# Altium footprint library Connector_Samtec_HPM_THT.PcbLib: 38 footprints (part 2 of 3)
Each footprint in its own frame and in the unit in brackets; x right, y up, seen from the top. Pads: shape width x height; smd on the part's side, far side on the other; paste and mask are expansions set on the pad; w line width, h text height; cw(c..) or ccw(c..) is an arc to the next point about the centre after c.
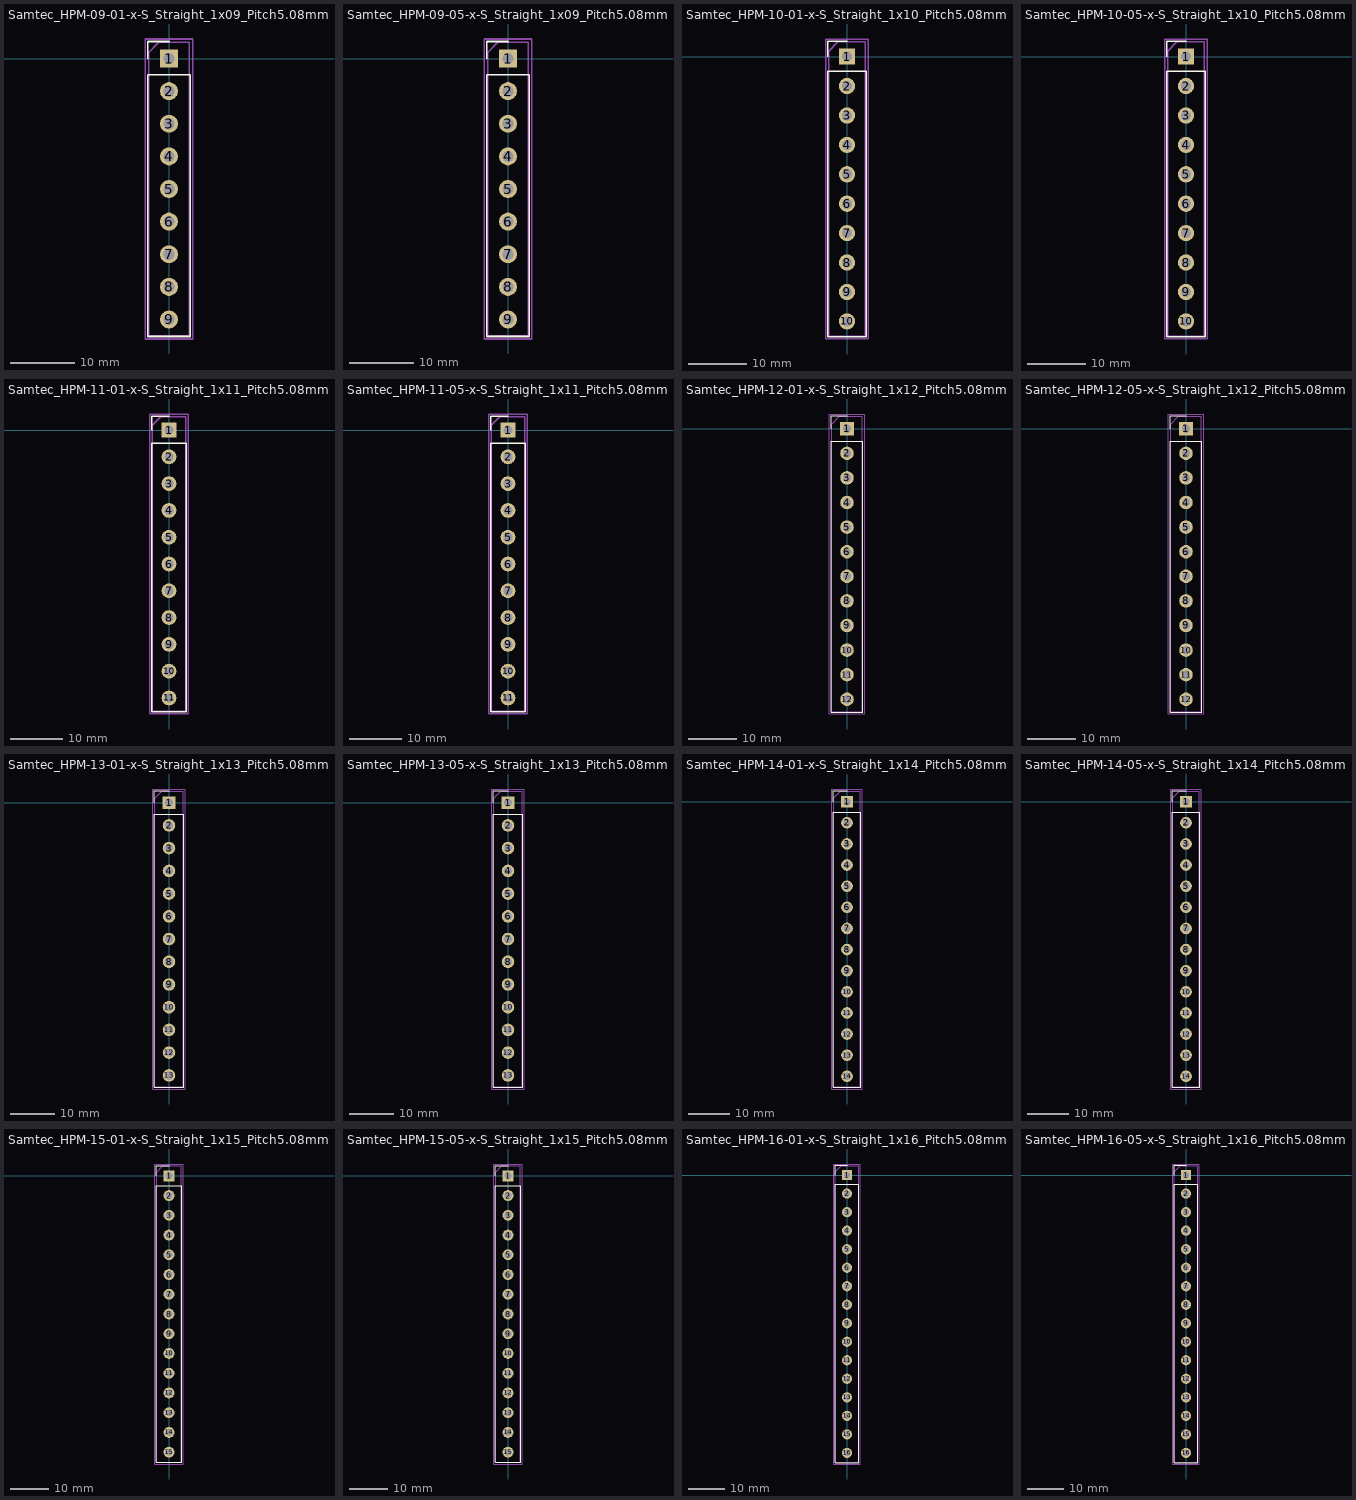
[diagram p1: the footprints below, top view; thin cyan lines are the x and y axes]

## Samtec_HPM-09-01-x-S_Straight_1x09_Pitch5.08mm [mm]
pads (9):
  rect 2.8x2.8 hole 1.75: 1(0,0)
  round 2.8 hole 1.75: 2(0,-5.08) 3(0,-10.16) 4(0,-15.24) 5(0,-20.32) 6(0,-25.4) 7(0,-30.48) 8(0,-35.56) 9(0,-40.64)
F.SilkS:
  lines w0.254: -3.285,0 -3.285,2.65 0,2.65 ; -3.285,-43.29 3.285,-43.29 3.285,-2.54 -3.285,-2.54 -3.285,-43.29
Top Assembly:
  lines w0.254: -3.175,-43.18 3.175,-43.18 3.175,2.54 -1.587,2.54 -3.175,0.953 -3.175,-43.18
  text "'.Designator'" at 0.84,-24.367 h1
Top Courtyard:
  lines w0.254: -3.68,-43.68 3.68,-43.68 3.68,3.04 -3.68,3.04 -3.68,-43.68
Top Designator:
  text ".Designator" at -7.618,-20.828 h1.52

## Samtec_HPM-09-05-x-S_Straight_1x09_Pitch5.08mm [mm]
pads (9):
  rect 2.8x2.8 hole 1.75: 1(0,0)
  round 2.8 hole 1.75: 2(0,-5.08) 3(0,-10.16) 4(0,-15.24) 5(0,-20.32) 6(0,-25.4) 7(0,-30.48) 8(0,-35.56) 9(0,-40.64)
F.SilkS:
  lines w0.254: -3.285,0 -3.285,2.65 0,2.65 ; -3.285,-43.29 3.285,-43.29 3.285,-2.54 -3.285,-2.54 -3.285,-43.29
Top Assembly:
  lines w0.254: -3.175,-43.18 3.175,-43.18 3.175,2.54 -1.587,2.54 -3.175,0.953 -3.175,-43.18
  text "'.Designator'" at 0.84,-24.367 h1
Top Courtyard:
  lines w0.254: -3.68,-43.68 3.68,-43.68 3.68,3.04 -3.68,3.04 -3.68,-43.68
Top Designator:
  text ".Designator" at -7.618,-20.828 h1.52

## Samtec_HPM-10-01-x-S_Straight_1x10_Pitch5.08mm [mm]
pads (10):
  rect 2.8x2.8 hole 1.75: 1(0,0)
  round 2.8 hole 1.75: 2(0,-5.08) 3(0,-10.16) 4(0,-15.24) 5(0,-20.32) 6(0,-25.4) 7(0,-30.48) 8(0,-35.56) 9(0,-40.64) 10(0,-45.72)
F.SilkS:
  lines w0.254: -3.285,0 -3.285,2.65 0,2.65 ; -3.285,-48.37 3.285,-48.37 3.285,-2.54 -3.285,-2.54 -3.285,-48.37
Top Assembly:
  lines w0.254: -3.175,-48.26 3.175,-48.26 3.175,2.54 -1.587,2.54 -3.175,0.953 -3.175,-48.26
  text "'.Designator'" at 0.84,-26.907 h1
Top Courtyard:
  lines w0.254: -3.68,-48.76 3.68,-48.76 3.68,3.04 -3.68,3.04 -3.68,-48.76
Top Designator:
  text ".Designator" at -7.618,-23.368 h1.52

## Samtec_HPM-10-05-x-S_Straight_1x10_Pitch5.08mm [mm]
pads (10):
  rect 2.8x2.8 hole 1.75: 1(0,0)
  round 2.8 hole 1.75: 2(0,-5.08) 3(0,-10.16) 4(0,-15.24) 5(0,-20.32) 6(0,-25.4) 7(0,-30.48) 8(0,-35.56) 9(0,-40.64) 10(0,-45.72)
F.SilkS:
  lines w0.254: -3.285,0 -3.285,2.65 0,2.65 ; -3.285,-48.37 3.285,-48.37 3.285,-2.54 -3.285,-2.54 -3.285,-48.37
Top Assembly:
  lines w0.254: -3.175,-48.26 3.175,-48.26 3.175,2.54 -1.587,2.54 -3.175,0.953 -3.175,-48.26
  text "'.Designator'" at 0.84,-26.907 h1
Top Courtyard:
  lines w0.254: -3.68,-48.76 3.68,-48.76 3.68,3.04 -3.68,3.04 -3.68,-48.76
Top Designator:
  text ".Designator" at -7.618,-23.368 h1.52

## Samtec_HPM-11-01-x-S_Straight_1x11_Pitch5.08mm [mm]
pads (11):
  rect 2.8x2.8 hole 1.75: 1(0,0)
  round 2.8 hole 1.75: 2(0,-5.08) 3(0,-10.16) 4(0,-15.24) 5(0,-20.32) 6(0,-25.4) 7(0,-30.48) 8(0,-35.56) 9(0,-40.64) 10(0,-45.72) 11(0,-50.8)
F.SilkS:
  lines w0.254: -3.285,0 -3.285,2.65 0,2.65 ; -3.285,-53.45 3.285,-53.45 3.285,-2.54 -3.285,-2.54 -3.285,-53.45
Top Assembly:
  lines w0.254: -3.175,-53.34 3.175,-53.34 3.175,2.54 -1.587,2.54 -3.175,0.953 -3.175,-53.34
  text "'.Designator'" at 0.84,-29.447 h1
Top Courtyard:
  lines w0.254: -3.68,-53.84 3.68,-53.84 3.68,3.04 -3.68,3.04 -3.68,-53.84
Top Designator:
  text ".Designator" at -7.618,-25.908 h1.52

## Samtec_HPM-11-05-x-S_Straight_1x11_Pitch5.08mm [mm]
pads (11):
  rect 2.8x2.8 hole 1.75: 1(0,0)
  round 2.8 hole 1.75: 2(0,-5.08) 3(0,-10.16) 4(0,-15.24) 5(0,-20.32) 6(0,-25.4) 7(0,-30.48) 8(0,-35.56) 9(0,-40.64) 10(0,-45.72) 11(0,-50.8)
F.SilkS:
  lines w0.254: -3.285,0 -3.285,2.65 0,2.65 ; -3.285,-53.45 3.285,-53.45 3.285,-2.54 -3.285,-2.54 -3.285,-53.45
Top Assembly:
  lines w0.254: -3.175,-53.34 3.175,-53.34 3.175,2.54 -1.587,2.54 -3.175,0.953 -3.175,-53.34
  text "'.Designator'" at 0.84,-29.447 h1
Top Courtyard:
  lines w0.254: -3.68,-53.84 3.68,-53.84 3.68,3.04 -3.68,3.04 -3.68,-53.84
Top Designator:
  text ".Designator" at -7.618,-25.908 h1.52

## Samtec_HPM-12-01-x-S_Straight_1x12_Pitch5.08mm [mm]
pads (12):
  rect 2.8x2.8 hole 1.75: 1(0,0)
  round 2.8 hole 1.75: 2(0,-5.08) 3(0,-10.16) 4(0,-15.24) 5(0,-20.32) 6(0,-25.4) 7(0,-30.48) 8(0,-35.56) 9(0,-40.64) 10(0,-45.72) 11(0,-50.8) 12(0,-55.88)
F.SilkS:
  lines w0.254: -3.285,0 -3.285,2.65 0,2.65 ; -3.285,-58.53 3.285,-58.53 3.285,-2.54 -3.285,-2.54 -3.285,-58.53
Top Assembly:
  lines w0.254: -3.175,-58.42 3.175,-58.42 3.175,2.54 -1.587,2.54 -3.175,0.953 -3.175,-58.42
  text "'.Designator'" at 0.84,-31.987 h1
Top Courtyard:
  lines w0.254: -3.68,-58.92 3.68,-58.92 3.68,3.04 -3.68,3.04 -3.68,-58.92
Top Designator:
  text ".Designator" at -7.618,-28.448 h1.52

## Samtec_HPM-12-05-x-S_Straight_1x12_Pitch5.08mm [mm]
pads (12):
  rect 2.8x2.8 hole 1.75: 1(0,0)
  round 2.8 hole 1.75: 2(0,-5.08) 3(0,-10.16) 4(0,-15.24) 5(0,-20.32) 6(0,-25.4) 7(0,-30.48) 8(0,-35.56) 9(0,-40.64) 10(0,-45.72) 11(0,-50.8) 12(0,-55.88)
F.SilkS:
  lines w0.254: -3.285,0 -3.285,2.65 0,2.65 ; -3.285,-58.53 3.285,-58.53 3.285,-2.54 -3.285,-2.54 -3.285,-58.53
Top Assembly:
  lines w0.254: -3.175,-58.42 3.175,-58.42 3.175,2.54 -1.587,2.54 -3.175,0.953 -3.175,-58.42
  text "'.Designator'" at 0.84,-31.987 h1
Top Courtyard:
  lines w0.254: -3.68,-58.92 3.68,-58.92 3.68,3.04 -3.68,3.04 -3.68,-58.92
Top Designator:
  text ".Designator" at -7.618,-28.448 h1.52

## Samtec_HPM-13-01-x-S_Straight_1x13_Pitch5.08mm [mm]
pads (13):
  rect 2.8x2.8 hole 1.75: 1(0,0)
  round 2.8 hole 1.75: 2(0,-5.08) 3(0,-10.16) 4(0,-15.24) 5(0,-20.32) 6(0,-25.4) 7(0,-30.48) 8(0,-35.56) 9(0,-40.64) 10(0,-45.72) 11(0,-50.8) 12(0,-55.88) 13(0,-60.96)
F.SilkS:
  lines w0.254: -3.285,0 -3.285,2.65 0,2.65 ; -3.285,-63.61 3.285,-63.61 3.285,-2.54 -3.285,-2.54 -3.285,-63.61
Top Assembly:
  lines w0.254: -3.175,-63.5 3.175,-63.5 3.175,2.54 -1.587,2.54 -3.175,0.953 -3.175,-63.5
  text "'.Designator'" at 0.84,-34.527 h1
Top Courtyard:
  lines w0.254: -3.68,-64 3.68,-64 3.68,3.05 -3.68,3.05 -3.68,-64
Top Designator:
  text ".Designator" at -7.618,-30.983 h1.52

## Samtec_HPM-13-05-x-S_Straight_1x13_Pitch5.08mm [mm]
pads (13):
  rect 2.8x2.8 hole 1.75: 1(0,0)
  round 2.8 hole 1.75: 2(0,-5.08) 3(0,-10.16) 4(0,-15.24) 5(0,-20.32) 6(0,-25.4) 7(0,-30.48) 8(0,-35.56) 9(0,-40.64) 10(0,-45.72) 11(0,-50.8) 12(0,-55.88) 13(0,-60.96)
F.SilkS:
  lines w0.254: -3.285,0 -3.285,2.65 0,2.65 ; -3.285,-63.61 3.285,-63.61 3.285,-2.54 -3.285,-2.54 -3.285,-63.61
Top Assembly:
  lines w0.254: -3.175,-63.5 3.175,-63.5 3.175,2.54 -1.587,2.54 -3.175,0.953 -3.175,-63.5
  text "'.Designator'" at 0.84,-34.527 h1
Top Courtyard:
  lines w0.254: -3.68,-64 3.68,-64 3.68,3.05 -3.68,3.05 -3.68,-64
Top Designator:
  text ".Designator" at -7.618,-30.983 h1.52

## Samtec_HPM-14-01-x-S_Straight_1x14_Pitch5.08mm [mm]
pads (14):
  rect 2.8x2.8 hole 1.75: 1(0,0)
  round 2.8 hole 1.75: 2(0,-5.08) 3(0,-10.16) 4(0,-15.24) 5(0,-20.32) 6(0,-25.4) 7(0,-30.48) 8(0,-35.56) 9(0,-40.64) 10(0,-45.72) 11(0,-50.8) 12(0,-55.88) 13(0,-60.96) 14(0,-66.04)
F.SilkS:
  lines w0.254: -3.285,0 -3.285,2.65 0,2.65 ; -3.285,-68.69 3.285,-68.69 3.285,-2.54 -3.285,-2.54 -3.285,-68.69
Top Assembly:
  lines w0.254: -3.175,-68.58 3.175,-68.58 3.175,2.54 -1.587,2.54 -3.175,0.953 -3.175,-68.58
  text "'.Designator'" at 0.84,-37.067 h1
Top Courtyard:
  lines w0.254: -3.68,-69.09 3.68,-69.09 3.68,3.05 -3.68,3.05 -3.68,-69.09
Top Designator:
  text ".Designator" at -7.618,-33.528 h1.52

## Samtec_HPM-14-05-x-S_Straight_1x14_Pitch5.08mm [mm]
pads (14):
  rect 2.8x2.8 hole 1.75: 1(0,0)
  round 2.8 hole 1.75: 2(0,-5.08) 3(0,-10.16) 4(0,-15.24) 5(0,-20.32) 6(0,-25.4) 7(0,-30.48) 8(0,-35.56) 9(0,-40.64) 10(0,-45.72) 11(0,-50.8) 12(0,-55.88) 13(0,-60.96) 14(0,-66.04)
F.SilkS:
  lines w0.254: -3.285,0 -3.285,2.65 0,2.65 ; -3.285,-68.69 3.285,-68.69 3.285,-2.54 -3.285,-2.54 -3.285,-68.69
Top Assembly:
  lines w0.254: -3.175,-68.58 3.175,-68.58 3.175,2.54 -1.587,2.54 -3.175,0.953 -3.175,-68.58
  text "'.Designator'" at 0.84,-37.067 h1
Top Courtyard:
  lines w0.254: -3.68,-69.09 3.68,-69.09 3.68,3.05 -3.68,3.05 -3.68,-69.09
Top Designator:
  text ".Designator" at -7.618,-33.528 h1.52

## Samtec_HPM-15-01-x-S_Straight_1x15_Pitch5.08mm [mm]
pads (15):
  rect 2.8x2.8 hole 1.75: 1(0,0)
  round 2.8 hole 1.75: 2(0,-5.08) 3(0,-10.16) 4(0,-15.24) 5(0,-20.32) 6(0,-25.4) 7(0,-30.48) 8(0,-35.56) 9(0,-40.64) 10(0,-45.72) 11(0,-50.8) 12(0,-55.88) 13(0,-60.96) 14(0,-66.04) 15(0,-71.12)
F.SilkS:
  lines w0.254: -3.285,0 -3.285,2.65 0,2.65 ; -3.285,-73.77 3.285,-73.77 3.285,-2.54 -3.285,-2.54 -3.285,-73.77
Top Assembly:
  lines w0.254: -3.175,-73.66 3.175,-73.66 3.175,2.54 -1.587,2.54 -3.175,0.953 -3.175,-73.66
  text "'.Designator'" at 0.84,-39.607 h1
Top Courtyard:
  lines w0.254: -3.68,-74.17 3.68,-74.17 3.68,3.05 -3.68,3.05 -3.68,-74.17
Top Designator:
  text ".Designator" at -7.618,-36.068 h1.52

## Samtec_HPM-15-05-x-S_Straight_1x15_Pitch5.08mm [mm]
pads (15):
  rect 2.8x2.8 hole 1.75: 1(0,0)
  round 2.8 hole 1.75: 2(0,-5.08) 3(0,-10.16) 4(0,-15.24) 5(0,-20.32) 6(0,-25.4) 7(0,-30.48) 8(0,-35.56) 9(0,-40.64) 10(0,-45.72) 11(0,-50.8) 12(0,-55.88) 13(0,-60.96) 14(0,-66.04) 15(0,-71.12)
F.SilkS:
  lines w0.254: -3.285,0 -3.285,2.65 0,2.65 ; -3.285,-73.77 3.285,-73.77 3.285,-2.54 -3.285,-2.54 -3.285,-73.77
Top Assembly:
  lines w0.254: -3.175,-73.66 3.175,-73.66 3.175,2.54 -1.587,2.54 -3.175,0.953 -3.175,-73.66
  text "'.Designator'" at 0.84,-39.607 h1
Top Courtyard:
  lines w0.254: -3.68,-74.17 3.68,-74.17 3.68,3.05 -3.68,3.05 -3.68,-74.17
Top Designator:
  text ".Designator" at -7.618,-36.068 h1.52

## Samtec_HPM-16-01-x-S_Straight_1x16_Pitch5.08mm [mm]
pads (16):
  rect 2.8x2.8 hole 1.75: 1(0,0)
  round 2.8 hole 1.75: 2(0,-5.08) 3(0,-10.16) 4(0,-15.24) 5(0,-20.32) 6(0,-25.4) 7(0,-30.48) 8(0,-35.56) 9(0,-40.64) 10(0,-45.72) 11(0,-50.8) 12(0,-55.88) 13(0,-60.96) 14(0,-66.04) 15(0,-71.12) 16(0,-76.2)
F.SilkS:
  lines w0.254: -3.285,0 -3.285,2.65 0,2.65 ; -3.285,-78.85 3.285,-78.85 3.285,-2.54 -3.285,-2.54 -3.285,-78.85
Top Assembly:
  lines w0.254: -3.175,-78.74 3.175,-78.74 3.175,2.54 -1.587,2.54 -3.175,0.953 -3.175,-78.74
  text "'.Designator'" at 0.84,-42.147 h1
Top Courtyard:
  lines w0.254: -3.68,-79.25 3.68,-79.25 3.68,3.05 -3.68,3.05 -3.68,-79.25
Top Designator:
  text ".Designator" at -7.618,-38.608 h1.52

## Samtec_HPM-16-05-x-S_Straight_1x16_Pitch5.08mm [mm]
pads (16):
  rect 2.8x2.8 hole 1.75: 1(0,0)
  round 2.8 hole 1.75: 2(0,-5.08) 3(0,-10.16) 4(0,-15.24) 5(0,-20.32) 6(0,-25.4) 7(0,-30.48) 8(0,-35.56) 9(0,-40.64) 10(0,-45.72) 11(0,-50.8) 12(0,-55.88) 13(0,-60.96) 14(0,-66.04) 15(0,-71.12) 16(0,-76.2)
F.SilkS:
  lines w0.254: -3.285,0 -3.285,2.65 0,2.65 ; -3.285,-78.85 3.285,-78.85 3.285,-2.54 -3.285,-2.54 -3.285,-78.85
Top Assembly:
  lines w0.254: -3.175,-78.74 3.175,-78.74 3.175,2.54 -1.587,2.54 -3.175,0.953 -3.175,-78.74
  text "'.Designator'" at 0.84,-42.147 h1
Top Courtyard:
  lines w0.254: -3.68,-79.25 3.68,-79.25 3.68,3.05 -3.68,3.05 -3.68,-79.25
Top Designator:
  text ".Designator" at -7.618,-38.608 h1.52